# Altium footprint library PCB - FET - D3PAK-3.PcbLib: 1 footprints
Each footprint in its own frame and in the unit in brackets; x right, y up, seen from the top. Pads: shape width x height; smd on the part's side, far side on the other; paste and mask are expansions set on the pad; w line width, h text height; cw(c..) or ccw(c..) is an arc to the next point about the centre after c.
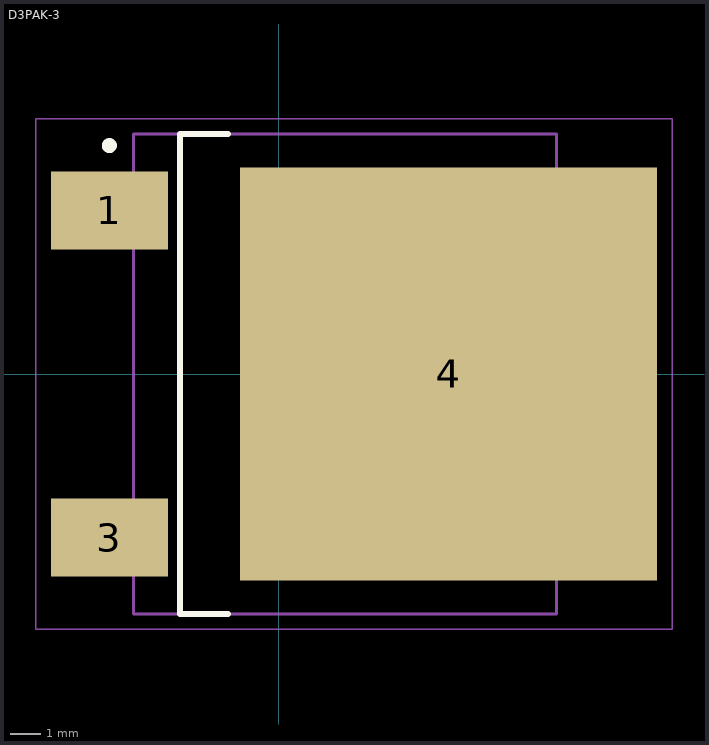
[diagram p0: the footprint, top view; thin cyan lines are the x and y axes]

## D3PAK-3 [mm]
pads (3):
  rect 3.9x2.6 smd: 1(-5.65,5.45) 3(-5.65,-5.45)
  rect 13.9x13.75 smd: 4(5.65,0)
Top Overlay:
  circle w0.25: c-5.65,7.609 r0.125
  lines w0.2: -1.7,-8 -3.3,-8 -3.3,8 -1.7,8
Mechanical 13:
  lines w0.1: -4.85,-8 9.25,-8 9.25,8 -4.85,8 -4.85,-8
Mechanical 15:
  lines w0.05: -8.1,-8.5 13.1,-8.5 13.1,8.5 -8.1,8.5 -8.1,-8.5
  lines w0.1: 2,0 3,0 ; 2.5,-0.5 2.5,0.5
3D body "DPAK545P1890X500-3M.step": height 5, standoff 0, extent -6.675,-8 12.225,8